# EAGLE library part ARDUINO_SHIELD (library PikiTech)
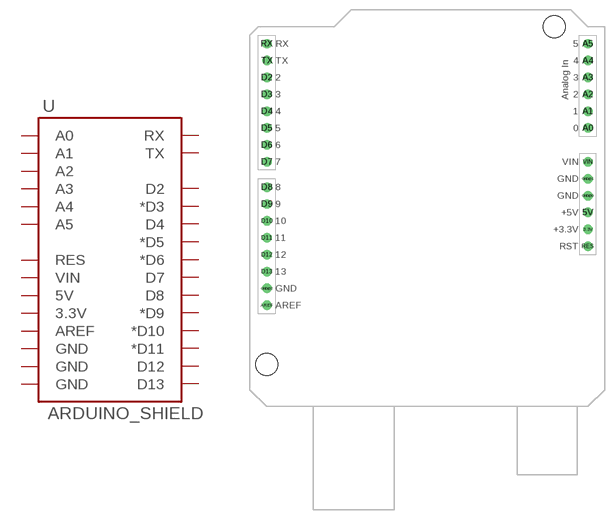
[diagram p6: symbol with the pads of ARDUINO_SHIELD; footprint ARDUINO_SHIELD]

Designator prefix -

## ARDUINO_SHIELD  [ARDUINO_SHIELD]
3.3V  3.3V
5V  5V
A0  A0
A1  A1
A2  A2
A3  A3
A4  A4
A5  A5
AREF  AREF
D2  D2
D3  *D3
D4  D4
D5  *D5
D6  *D6
D7  D7
D8  D8
D9  *D9
D10  *D10
D11  *D11
D12  D12
D13  D13
GND@0  GND
GND@1  GND
GND@2  GND
RES  RES
RX  RX
TX  TX
VIN  VIN

## Footprint ARDUINO_SHIELD (pad centres in mm)
drill 0.9 pad 1.422: 3.3V 50.546,26.67; 5V 50.546,29.21; A0 50.546,41.91; A1 50.546,44.45; A2 50.546,46.99; A3 50.546,49.53; A4 50.546,52.07; A5 50.546,54.61; AREF 2.286,15.24; D2 2.286,49.53; D3 2.286,46.99; D4 2.286,44.45; D5 2.286,41.91; D6 2.286,39.37; D7 2.286,36.83; D8 2.286,33.02; D9 2.286,30.48; D10 2.286,27.94; D11 2.286,25.4; D12 2.286,22.86; D13 2.286,20.32; GND@0 50.546,31.75; GND@1 50.546,34.29; GND@2 2.286,17.78; RES 50.546,24.13; RX 2.286,54.61; TX 2.286,52.07; VIN 50.546,36.83
hole 3.302 at 45.466,57.15
hole 3.302 at 2.286,6.35